# Altium footprint library QFN21P50_400X400X50L40X24T260N.PcbLib: 1 footprints
Each footprint in its own frame and in the unit in brackets; x right, y up, seen from the top. Pads: shape width x height; smd on the part's side, far side on the other; paste and mask are expansions set on the pad; w line width, h text height; cw(c..) or ccw(c..) is an arc to the next point about the centre after c.
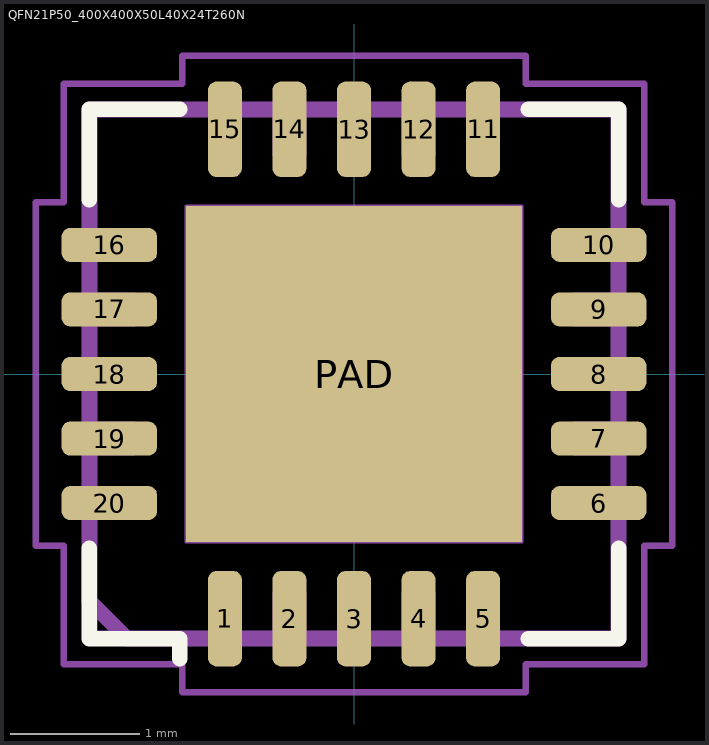
[diagram p0: the footprint, top view; thin cyan lines are the x and y axes]

## QFN21P50_400X400X50L40X24T260N [mm] "Quad Flat No-Lead (QFN) with Thermal Tab, 0.50 mm pitch;  square, 5 pin X 5 pin, 4.00 mm L X 4.00 mm W X 0.50 mm H Body"
height 0.5
pads (21):
  rrect50% 0.264x0.738 smd: 1(-1,-1.896) 2(-0.5,-1.896) 3(0,-1.896) 4(0.5,-1.896) 5(1,-1.896) 11(1,1.896) 12(0.5,1.896) 13(0,1.896) 14(-0.5,1.896) 15(-1,1.896)
  rrect50% 0.738x0.264 smd: 6(1.896,-1) 7(1.896,-0.5) 8(1.896,0) 9(1.896,0.5) 10(1.896,1) 16(-1.896,1) 17(-1.896,0.5) 18(-1.896,0) 19(-1.896,-0.5) 20(-1.896,-1)
  rect 2.6x2.6 smd paste-2.6: PAD(0,0)
Top Overlay:
  lines w0.12: -2.05,-1.35 -2.05,-2.05 -1.35,-2.05 -1.35,-2.205 ; -2.05,1.35 -2.05,2.05 -1.35,2.05 ; 1.35,-2.05 2.05,-2.05 2.05,-1.35 ; 1.35,2.05 2.05,2.05 2.05,1.35
Top Paste:
  region: 1.109,-1.109 0.191,-1.109 0.191,-0.191 1.109,-0.191
  region: 1.109,0.191 0.191,0.191 0.191,1.109 1.109,1.109
  region: -0.191,-1.109 -1.109,-1.109 -1.109,-0.191 -0.191,-0.191
  region: -0.191,0.191 -1.109,0.191 -1.109,1.109 -0.191,1.109
Mechanical 3:
  lines w0.12: -2.05,-1.76 -1.76,-2.05 2.05,-2.05 2.05,2.05 -2.05,2.05 -2.05,-1.76
Mechanical 5:
  lines w0.025: -2.001,-1.12 -1.721,-1.12 ccw(c-1.721,-1) -1.721,-0.88 -2.001,-0.88 -2.001,-1.12 ; -2.001,-0.62 -1.721,-0.62 ccw(c-1.721,-0.5) -1.721,-0.38 -2.001,-0.38 -2.001,-0.62 ; -2.001,-0.12 -1.721,-0.12 ccw(c-1.721,0) -1.721,0.12 -2.001,0.12 -2.001,-0.12 ; -2.001,0.38 -1.721,0.38 ccw(c-1.721,0.5) -1.721,0.62 -2.001,0.62 -2.001,0.38 ; -2.001,0.88 -1.721,0.88 ccw(c-1.721,1) -1.721,1.12 -2.001,1.12 -2.001,0.88 ; -2,-2 -2,2 2,2 2,-2 -2,-2 ; -1.3,-1.3 1.3,-1.3 1.3,1.3 -1.3,1.3 -1.3,-1.3 ; -1.12,-2 -1.12,-1.72 cw(c-1,-1.72) -0.88,-1.72 -0.88,-2 -1.12,-2 ; -1.12,1.72 ccw(c-1,1.72) -0.88,1.72 -0.88,2 -1.12,2 -1.12,1.72 ; -0.62,-2 -0.62,-1.72 cw(c-0.5,-1.72) -0.38,-1.72 -0.38,-2 -0.62,-2 ; -0.62,1.72 ccw(c-0.5,1.72) -0.38,1.72 -0.38,2 -0.62,2 -0.62,1.72 ; -0.12,-2 -0.12,-1.72 cw(c0,-1.72) 0.12,-1.72 0.12,-2 -0.12,-2 ; -0.12,1.72 ccw(c0,1.72) 0.12,1.72 0.12,2 -0.12,2 -0.12,1.72 ; 0.38,-2 0.38,-1.72 cw(c0.5,-1.72) 0.62,-1.72 0.62,-2 0.38,-2 ; 0.38,1.72 ccw(c0.5,1.72) 0.62,1.72 0.62,2 0.38,2 0.38,1.72 ; 0.88,-2 0.88,-1.72 cw(c1,-1.72) 1.12,-1.72 1.12,-2 0.88,-2 ; 0.88,1.72 ccw(c1,1.72) 1.12,1.72 1.12,2 0.88,2 0.88,1.72 ; 1.72,-1.12 cw(c1.72,-1) 1.72,-0.88 2,-0.88 2,-1.12 1.72,-1.12 ; 1.72,-0.62 cw(c1.72,-0.5) 1.72,-0.38 2,-0.38 2,-0.62 1.72,-0.62 ; 1.72,-0.12 cw(c1.72,0) 1.72,0.12 2,0.12 2,-0.12 1.72,-0.12 ; 1.72,0.38 cw(c1.72,0.5) 1.72,0.62 2,0.62 2,0.38 1.72,0.38 ; 1.72,0.88 cw(c1.72,1) 1.72,1.12 2,1.12 2,0.88 1.72,0.88
Mechanical 7:
  circle w0.05: c0,0 r0.25
  lines w0.05: -0.35,0 0.35,0 ; 0,-0.35 0,0.35 ; -2.465,-1.332 -2.465,1.332 -2.25,1.332 -2.25,2.25 -1.332,2.25 -1.332,2.465 1.332,2.465 1.332,2.25 2.25,2.25 2.25,1.332 2.465,1.332 2.465,-1.332 2.25,-1.332 2.25,-2.25 1.332,-2.25 1.332,-2.465 -1.332,-2.465 -1.332,-2.25 -2.25,-2.25 -2.25,-1.332 -2.465,-1.332
Mechanical 9:
  text "'.Designator'" at -5.817,-0.398 h1.02
3D body "QFN21P50_400X400X50L40X24T260.STEP": height 0.5, standoff 0, extent -2.05,-2.05 2.05,2.05
3D body: height 23.4, standoff -5, extent -2.465,-2.465 2.465,2.465